# Altium footprint library MCP_family.PcbLib: 5 footprints
Each footprint in its own frame and in the unit in brackets; x right, y up, seen from the top. Pads: shape width x height; smd on the part's side, far side on the other; paste and mask are expansions set on the pad; w line width, h text height; cw(c..) or ccw(c..) is an arc to the next point about the centre after c.
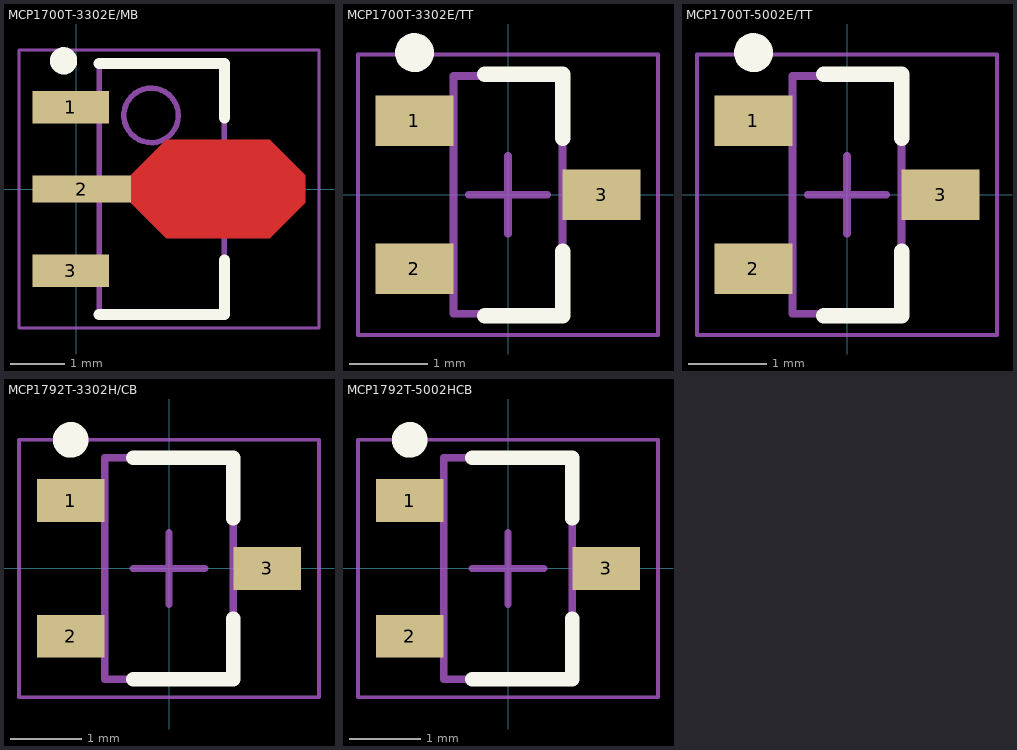
[diagram p0: the footprints below, top view; thin cyan lines are the x and y axes]

## MCP1700T-3302E/MB [mm] "SOT89, 3-Leads, Body 4.50x2.21mm, Pitch 1.50mm, Lead Span 4.1mm"
height 1.6
pads (3):
  rect 1.4x0.6 smd: 1(-0.1,1.5) 3(-0.1,-1.5)
  rect 1.8x0.5 smd: 2(0.1,0)
Top Layer:
  region: 1,0.25 1.65,0.9 3.55,0.9 4.2,0.25 4.2,-0.25 3.55,-0.9 1.65,-0.9 1,-0.25
Top Overlay:
  circle w0.25: c-0.232,2.35 r0.125
  lines w0.2: 0.418,-2.3 2.718,-2.3 2.718,-1.3 ; 0.418,2.3 2.718,2.3 2.718,1.3
Top Designator:
  text ".Designator" at -6.002,-0.401 h1.2
Mechanical 13:
  circle w0.1: c1.373,1.35 r0.5
  lines w0.1: 0.423,-2.3 2.713,-2.3 2.713,2.3 0.423,2.3 0.423,-2.3
Mechanical 15:
  lines w0.05: -1.05,-2.55 4.45,-2.55 4.45,2.55 -1.05,2.55 -1.05,-2.55
  lines w0.1: 1.068,0 2.068,0 ; 1.568,-0.5 1.568,0.5
3D body "SOT89-150P410X160-3N.step": height 1.6, standoff 0, extent -0.345,-2.297 3.705,2.297

## MCP1700T-3302E/TT [mm] "SOT23, 3-Leads, Body 2.86x2.37mm, Pitch 0.95mm"
height 1.12
pads (3):
  rect 1x0.65 smd: 1(-1.2,0.95) 2(-1.2,-0.95) 3(1.2,0)
Top Overlay:
  circle w0.25: c-1.2,1.825 r0.125
  lines w0.2: -0.3,-1.55 0.7,-1.55 0.7,-0.725 ; -0.3,1.55 0.7,1.55 0.7,0.725
Top Designator:
  text ".Designator" at -5.998,-0.4 h1.2
Mechanical 13:
  lines w0.1: -0.7,-1.525 -0.7,1.525 0.7,1.525 0.7,-1.525 -0.7,-1.525
Mechanical 15:
  lines w0.05: -1.925,-1.8 -1.925,1.8 1.925,1.8 1.925,-1.8 -1.925,-1.8
  lines w0.1: -0.5,0 0.5,0 ; 0,-0.5 0,0.5
3D body "SOT95P237X112-3N.step": height 1.12, standoff 0, extent -1.39,-1.525 1.39,1.525

## MCP1700T-5002E/TT [mm] "SOT23, 3-Leads, Body 2.86x2.37mm, Pitch 0.95mm"
height 1.12
pads (3):
  rect 1x0.65 smd: 1(-1.2,0.95) 2(-1.2,-0.95) 3(1.2,0)
Top Overlay:
  circle w0.25: c-1.2,1.825 r0.125
  lines w0.2: -0.3,-1.55 0.7,-1.55 0.7,-0.725 ; -0.3,1.55 0.7,1.55 0.7,0.725
Top Designator:
  text ".Designator" at -5.998,-0.4 h1.2
Mechanical 13:
  lines w0.1: -0.7,-1.525 0.7,-1.525 0.7,1.525 -0.7,1.525 -0.7,-1.525
Mechanical 15:
  lines w0.05: -1.925,-1.8 1.925,-1.8 1.925,1.8 -1.925,1.8 -1.925,-1.8
  lines w0.1: -0.5,0 0.5,0 ; 0,-0.5 0,0.5
3D body "SOT95P237X112-3N.step": height 1.12, standoff 0, extent -1.39,-1.525 1.39,1.525

## MCP1792T-3302H/CB [mm] "SOT23, 3-Leads, Body 2.90x2.55mm, Pitch 0.95mm"
height 1.45
pads (3):
  rect 0.95x0.6 smd: 1(-1.375,0.95) 2(-1.375,-0.95) 3(1.375,0)
Top Overlay:
  circle w0.25: c-1.375,1.8 r0.125
  lines w0.2: -0.5,-1.55 0.9,-1.55 0.9,-0.7 ; -0.5,1.55 0.9,1.55 0.9,0.7
Top Designator:
  text ".Designator" at -5.998,-0.4 h1.2
Mechanical 13:
  lines w0.1: -0.9,-1.55 -0.9,1.55 0.9,1.55 0.9,-1.55 -0.9,-1.55
Mechanical 15:
  lines w0.05: -2.1,-1.8 -2.1,1.8 2.1,1.8 2.1,-1.8 -2.1,-1.8
  lines w0.1: -0.5,0 0.5,0 ; 0,-0.5 0,0.5
3D body "SOT95P255X145-3N.step": height 1.45, standoff 0, extent -1.55,-1.55 1.55,1.55

## MCP1792T-5002HCB [mm] "SOT23, 3-Leads, Body 2.90x2.55mm, Pitch 0.95mm"
height 1.45
pads (3):
  rect 0.95x0.6 smd: 1(-1.375,0.95) 2(-1.375,-0.95) 3(1.375,0)
Top Overlay:
  circle w0.25: c-1.375,1.8 r0.125
  lines w0.2: -0.5,-1.55 0.9,-1.55 0.9,-0.7 ; -0.5,1.55 0.9,1.55 0.9,0.7
Top Designator:
  text ".Designator" at -5.998,-0.4 h1.2
Mechanical 13:
  lines w0.1: -0.9,-1.55 -0.9,1.55 0.9,1.55 0.9,-1.55 -0.9,-1.55
Mechanical 15:
  lines w0.05: -2.1,-1.8 -2.1,1.8 2.1,1.8 2.1,-1.8 -2.1,-1.8
  lines w0.1: -0.5,0 0.5,0 ; 0,-0.5 0,0.5
3D body "SOT95P255X145-3N.step": height 1.45, standoff 0, extent -1.55,-1.55 1.55,1.55